# Altium schematic symbol library LAUNCHXL-F28379D.SchLib: 1 symbol
Pins are listed as number, name and electrical type; pins without a type are passive.

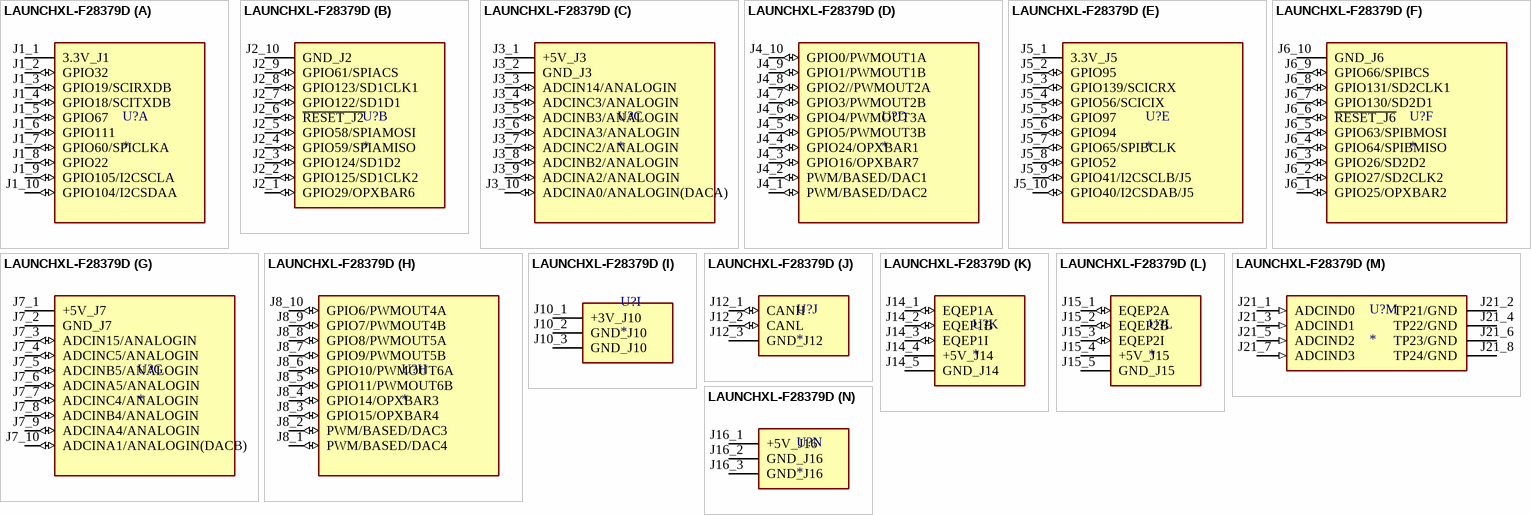
[diagram p0: symbol LAUNCHXL-F28379D]

## LAUNCHXL-F28379D
designator U?
MP: LAUNCHXL-F28379D; Price: None; Value: *; Package: None; Availability: Unavailable
footprint MOD_LAUNCHXL-F28379D
part A pins: J1_1 3.3V_J1 (power), J1_2 GPIO32 (io), J1_3 GPIO19/SCIRXDB (io), J1_4 GPIO18/SCITXDB (io), J1_5 GPIO67 (io), J1_6 GPIO111 (io), J1_7 GPIO60/SPICLKA (io), J1_8 GPIO22 (io), J1_9 GPIO105/I2CSCLA (io), J1_10 GPIO104/I2CSDAA (io)
part B pins: J2_1 GPIO29/OPXBAR6 (io), J2_2 GPIO125/SD1CLK2 (io), J2_3 GPIO124/SD1D2 (io), J2_4 GPIO59/SPIAMISO (io), J2_5 GPIO58/SPIAMOSI (io), J2_6 ~{RESET_J2} (io), J2_7 GPIO122/SD1D1 (io), J2_8 GPIO123/SD1CLK1 (io), J2_9 GPIO61/SPIACS (io), J2_10 GND_J2 (power)
part C pins: J3_1 +5V_J3 (power), J3_2 GND_J3 (power), J3_3 ADCIN14/ANALOGIN (io), J3_4 ADCINC3/ANALOGIN (io), J3_5 ADCINB3/ANALOGIN (io), J3_6 ADCINA3/ANALOGIN (io), J3_7 ADCINC2/ANALOGIN (io), J3_8 ADCINB2/ANALOGIN (io), J3_9 ADCINA2/ANALOGIN (io), J3_10 ADCINA0/ANALOGIN(DACA) (io)
part D pins: J4_1 PWM/BASED/DAC2 (io), J4_2 PWM/BASED/DAC1 (io), J4_3 GPIO16/OPXBAR7 (io), J4_4 GPIO24/OPXBAR1 (io), J4_5 GPIO5/PWMOUT3B (io), J4_6 GPIO4/PWMOUT3A (io), J4_7 GPIO3/PWMOUT2B (io), J4_8 GPIO2//PWMOUT2A (io), J4_9 GPIO1/PWMOUT1B (io), J4_10 GPIO0/PWMOUT1A (io)
part E pins: J5_1 3.3V_J5 (power), J5_2 GPIO95 (io), J5_3 GPIO139/SCICRX (io), J5_4 GPIO56/SCICIX (io), J5_5 GPIO97 (io), J5_6 GPIO94 (io), J5_7 GPIO65/SPIBCLK (io), J5_8 GPIO52 (io), J5_9 GPIO41/I2CSCLB/J5 (io), J5_10 GPIO40/I2CSDAB/J5 (io)
part F pins: J6_1 GPIO25/OPXBAR2 (io), J6_2 GPIO27/SD2CLK2 (io), J6_3 GPIO26/SD2D2 (io), J6_4 GPIO64/SPIBMISO (io), J6_5 GPIO63/SPIBMOSI (io), J6_6 ~{RESET_J6} (io), J6_7 GPIO130/SD2D1 (io), J6_8 GPIO131/SD2CLK1 (io), J6_9 GPIO66/SPIBCS (io), J6_10 GND_J6 (power)
part G pins: J7_1 +5V_J7 (power), J7_2 GND_J7 (power), J7_3 ADCIN15/ANALOGIN (io), J7_4 ADCINC5/ANALOGIN (io), J7_5 ADCINB5/ANALOGIN (io), J7_6 ADCINA5/ANALOGIN (io), J7_7 ADCINC4/ANALOGIN (io), J7_8 ADCINB4/ANALOGIN (io), J7_9 ADCINA4/ANALOGIN (io), J7_10 ADCINA1/ANALOGIN(DACB) (io)
part H pins: J8_1 PWM/BASED/DAC4 (io), J8_2 PWM/BASED/DAC3 (io), J8_3 GPIO15/OPXBAR4 (io), J8_4 GPIO14/OPXBAR3 (io), J8_5 GPIO11/PWMOUT6B (io), J8_6 GPIO10/PWMOUT6A (io), J8_7 GPIO9/PWMOUT5B (io), J8_8 GPIO8/PWMOUT5A (io), J8_9 GPIO7/PWMOUT4B (io), J8_10 GPIO6/PWMOUT4A (io)
part I pins: J10_1 +3V_J10 (power), J10_2 GND_J10 (power), J10_3 GND_J10 (power)
part J pins: J12_1 CANH (io), J12_2 CANL (io), J12_3 GND_J12 (power)
part K pins: J14_1 EQEP1A (io), J14_2 EQEP1B (io), J14_3 EQEP1I (io), J14_4 +5V_J14 (power), J14_5 GND_J14 (power)
part L pins: J15_1 EQEP2A (io), J15_2 EQEP2B (io), J15_3 EQEP2I (io), J15_4 +5V_J15 (power), J15_5 GND_J15 (power)
part M pins: J21_1 ADCIND0 (in), J21_2 TP21/GND (power), J21_3 ADCIND1 (in), J21_4 TP22/GND (power), J21_5 ADCIND2 (in), J21_6 TP23/GND (power), J21_7 ADCIND3 (in), J21_8 TP24/GND (power)
part N pins: J16_1 +5V_J16 (power), J16_2 GND_J16 (power), J16_3 GND_J16 (power)